# Altium footprint library SOD Package.PcbLib: 1 footprints
Each footprint in its own frame and in the unit in brackets; x right, y up, seen from the top. Pads: shape width x height; smd on the part's side, far side on the other; paste and mask are expansions set on the pad; w line width, h text height; cw(c..) or ccw(c..) is an arc to the next point about the centre after c.
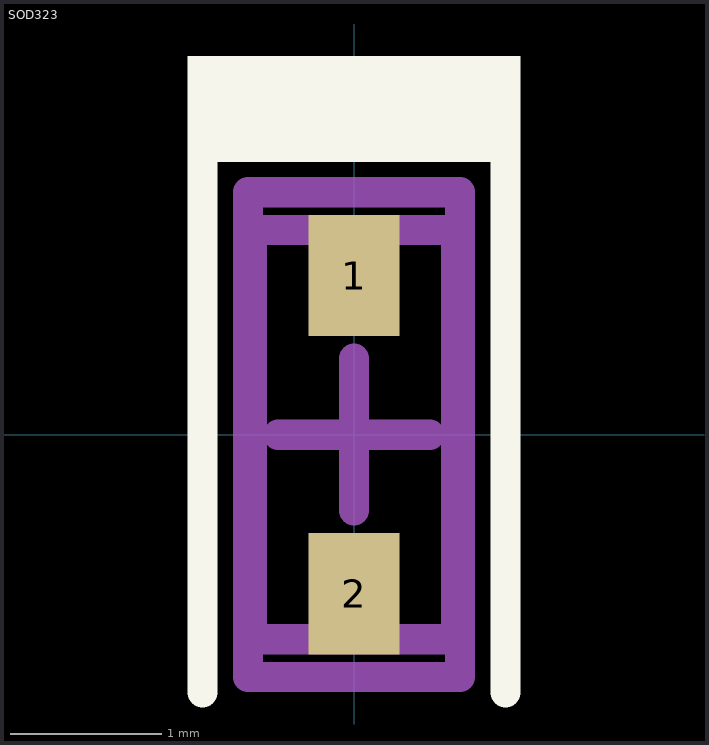
[diagram p0: the footprint, top view; thin cyan lines are the x and y axes]

## SOD323 [mm]
pads (2):
  rect 0.6x0.8 smd: 1(0,1.05) 2(0,-1.05)
Top Overlay:
  rectangle: -1.1,1.8 1.1,2.5
  lines w0.2: -1,-1.7 -1,1.8 ; 1,-1.7 1,1.8
Assembly:
  lines w0.2: -0.675,-1.35 0.675,-1.35 0.675,1.35 -0.675,1.35 -0.675,-1.35
Mechanical 15:
  lines w0.2: -0.5,0 0.5,0 ; 0,-0.5 0,0.5 ; -0.7,-1.6 -0.7,1.6 0.7,1.6 0.7,-1.6 -0.7,-1.6
3D body "SOD323.step": height 1.1, standoff 0, extent -0.675,-1.35 0.675,1.35